# EAGLE library part DRV8825 (library ICs)
Motor Driver/Controller, Stepper, 8.2V to 45V supply, 3.3V/2.5 A/2 Outputs, HTSSOP-28
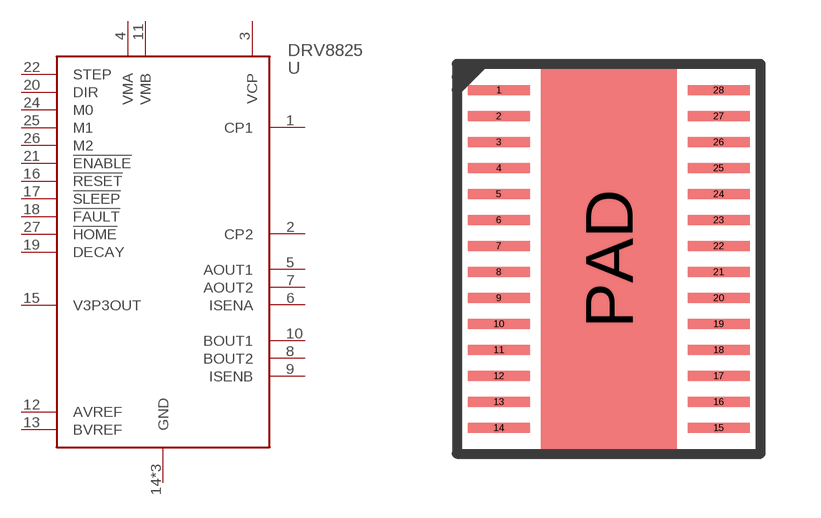
[diagram p144: symbol with the pads of HTSSOP28; footprint HTSSOP28]

Designator prefix U

## DRV8825PWP (FARNELL: 1903642; PRICE_PER: 4.64; VALUE: DRV8825)  [HTSSOP28]
1  CP1
2  CP2
3  VCP
4  VMA
5  AOUT1
6  ISENA
7  AOUT2
8  BOUT2
9  ISENB
10  BOUT1
11  VMB
12  AVREF
13  BVREF
14  GND
15  V3P3OUT
16  !RESET
17  !SLEEP
18  !FAULT
19  DECAY
20  DIR
21  !ENABLE
22  STEP
24  M0
25  M1
26  M2
27  !HOME
28  GND
PAD  GND

## Footprint HTSSOP28 (pad centres in mm)
smd 1.55 x 0.25: 1 -2.75,4.225; 2 -2.75,3.575; 3 -2.75,2.925; 4 -2.75,2.275; 5 -2.75,1.625; 6 -2.75,0.975; 7 -2.75,0.325; 8 -2.75,-0.325; 9 -2.75,-0.975; 10 -2.75,-1.625; 11 -2.75,-2.275; 12 -2.75,-2.925; 13 -2.75,-3.575; 14 -2.75,-4.225; 15 2.75,-4.225; 16 2.75,-3.575; 17 2.75,-2.925; 18 2.75,-2.275; 19 2.75,-1.625; 20 2.75,-0.975; 21 2.75,-0.325; 22 2.75,0.325; 23 2.75,0.975; 24 2.75,1.625; 25 2.75,2.275; 26 2.75,2.925; 27 2.75,3.575; 28 2.75,4.225
smd 3.4 x 9.7: PAD 0,0